# EAGLE library part ESP8266-CON (library (custom)-connectors-and-modules)
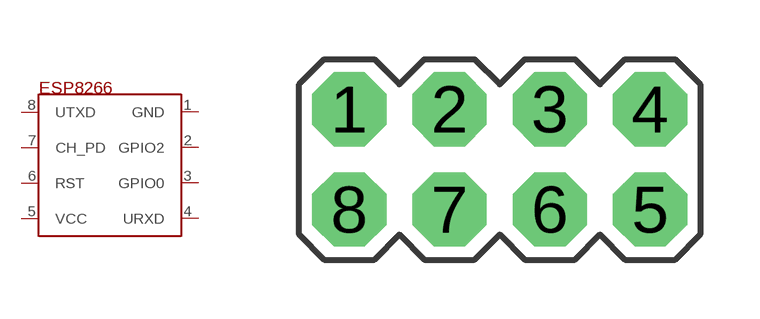
[diagram p2: symbol with the pads of 2X4; footprint 2X4]

Designator prefix ESP8266

## ESP8266-CON  [2X4]
1  GND
2  GPIO2
3  GPIO0
4  URXD
5  VCC
6  RST
7  CH_PD
8  UTXD

## Footprint 2X4 (pad centres in mm)
drill 1.016 pad 1.88 octagon: 1 -3.81,1.27; 2 -1.27,1.27; 3 1.27,1.27; 4 3.81,1.27; 5 3.81,-1.27; 6 1.27,-1.27; 7 -1.27,-1.27; 8 -3.81,-1.27